# Altium footprint library Cap_Kemet_C0402C104J4RACTU_eec_IPC_C.PcbLib: 1 footprints
Each footprint in its own frame and in the unit in brackets; x right, y up, seen from the top. Pads: shape width x height; smd on the part's side, far side on the other; paste and mask are expansions set on the pad; w line width, h text height; cw(c..) or ccw(c..) is an arc to the next point about the centre after c.
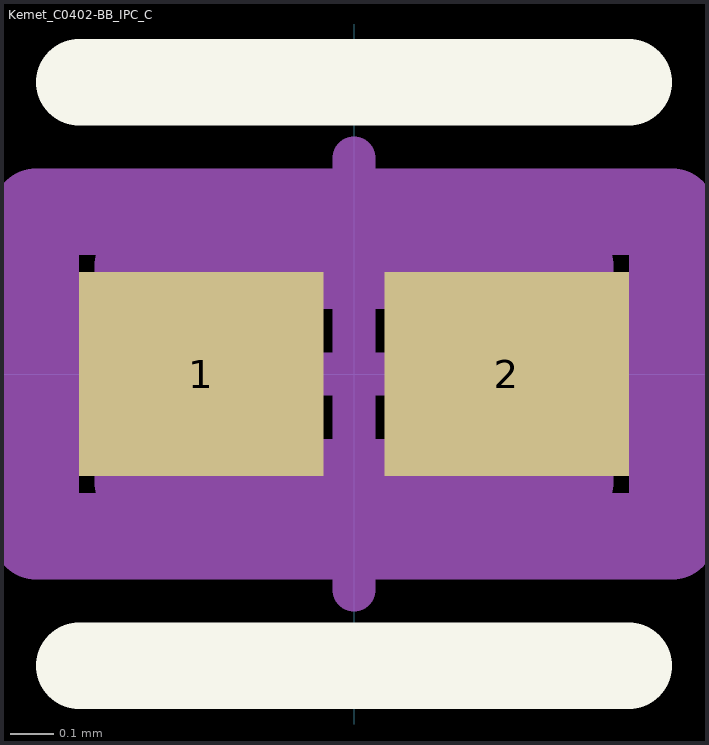
[diagram p0: the footprint, top view; thin cyan lines are the x and y axes]

## Kemet_C0402-BB_IPC_C [mm]
pads (2):
  rect 0.565x0.472 smd paste+0 mask+0: 1(-0.354,0) 2(0.354,0)
Top Overlay:
  lines w0.2: -0.636,-0.675 0.636,-0.675 ; -0.636,0.675 0.636,0.675
Mechanical 10:
  lines w0.2: -0.736,-0.375 0.736,-0.375 0.736,0.375 -0.736,0.375 -0.736,-0.375
  text ".Designator" at 0,0.188 h1
Mechanical 12:
  lines w0.2: -0.5,-0.25 0.5,-0.25 0.5,0.25 -0.5,0.25 -0.5,-0.25
Mechanical 15:
  lines w0.1: -0.5,0 0.5,0 ; 0,-0.5 0,0.5
  lines w0.2: -0.736,-0.375 0.736,-0.375 0.736,0.375 -0.736,0.375 -0.736,-0.375
3D body "Cap_Kemet_C0402C104J4RACTU_eec.STEP": height 0.25, standoff 0, extent -0.736,-0.375 0.736,0.375